# Altium schematic symbol library sch.SchLib: 2 symbols
Pins are listed as number, name and electrical type; pins without a type are passive.

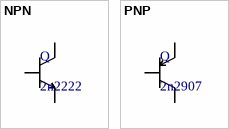
[diagram p0: symbols NPN to PNP]

## NPN
designator Q, comment 2n2222
footprint TO-18-W (Wider version of package)
pins: 1 E, 2 B, 3 C

## PNP
designator Q, comment 2n2907
footprint TO-18-W (Wider version of package)
pins: 1 E, 2 B, 3 C